# Altium footprint library Gravix-IND.PcbLib: 1 footprints
Each footprint in its own frame and in the unit in brackets; x right, y up, seen from the top. Pads: shape width x height; smd on the part's side, far side on the other; paste and mask are expansions set on the pad; w line width, h text height; cw(c..) or ccw(c..) is an arc to the next point about the centre after c.
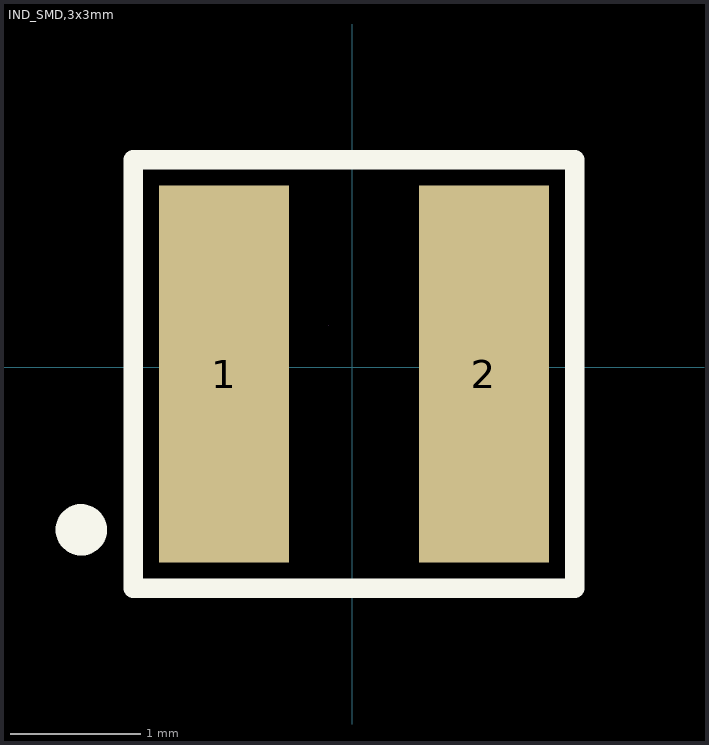
[diagram p0: the footprint, top view; thin cyan lines are the x and y axes]

## IND_SMD,3x3mm [mm]
pads (2):
  rect 1x2.9 smd paste+0 mask+0.051: 1(-0.988,-0.052) 2(1.012,-0.052)
Top Overlay:
  circle w0.254: c-2.088,-1.252 r0.071
  lines w0.152: -1.688,-1.702 -1.688,1.598 1.712,1.598 1.712,-1.702 -1.688,-1.702
Mechanical 15:
  lines w0.003: -0.186,0.323 -0.185,0.323